# Altium footprint library DF20160711.PcbLib: 86 footprints (part 1 of 6)
Each footprint in its own frame and in the unit in brackets; x right, y up, seen from the top. Pads: shape width x height; smd on the part's side, far side on the other; paste and mask are expansions set on the pad; w line width, h text height; cw(c..) or ccw(c..) is an arc to the next point about the centre after c.
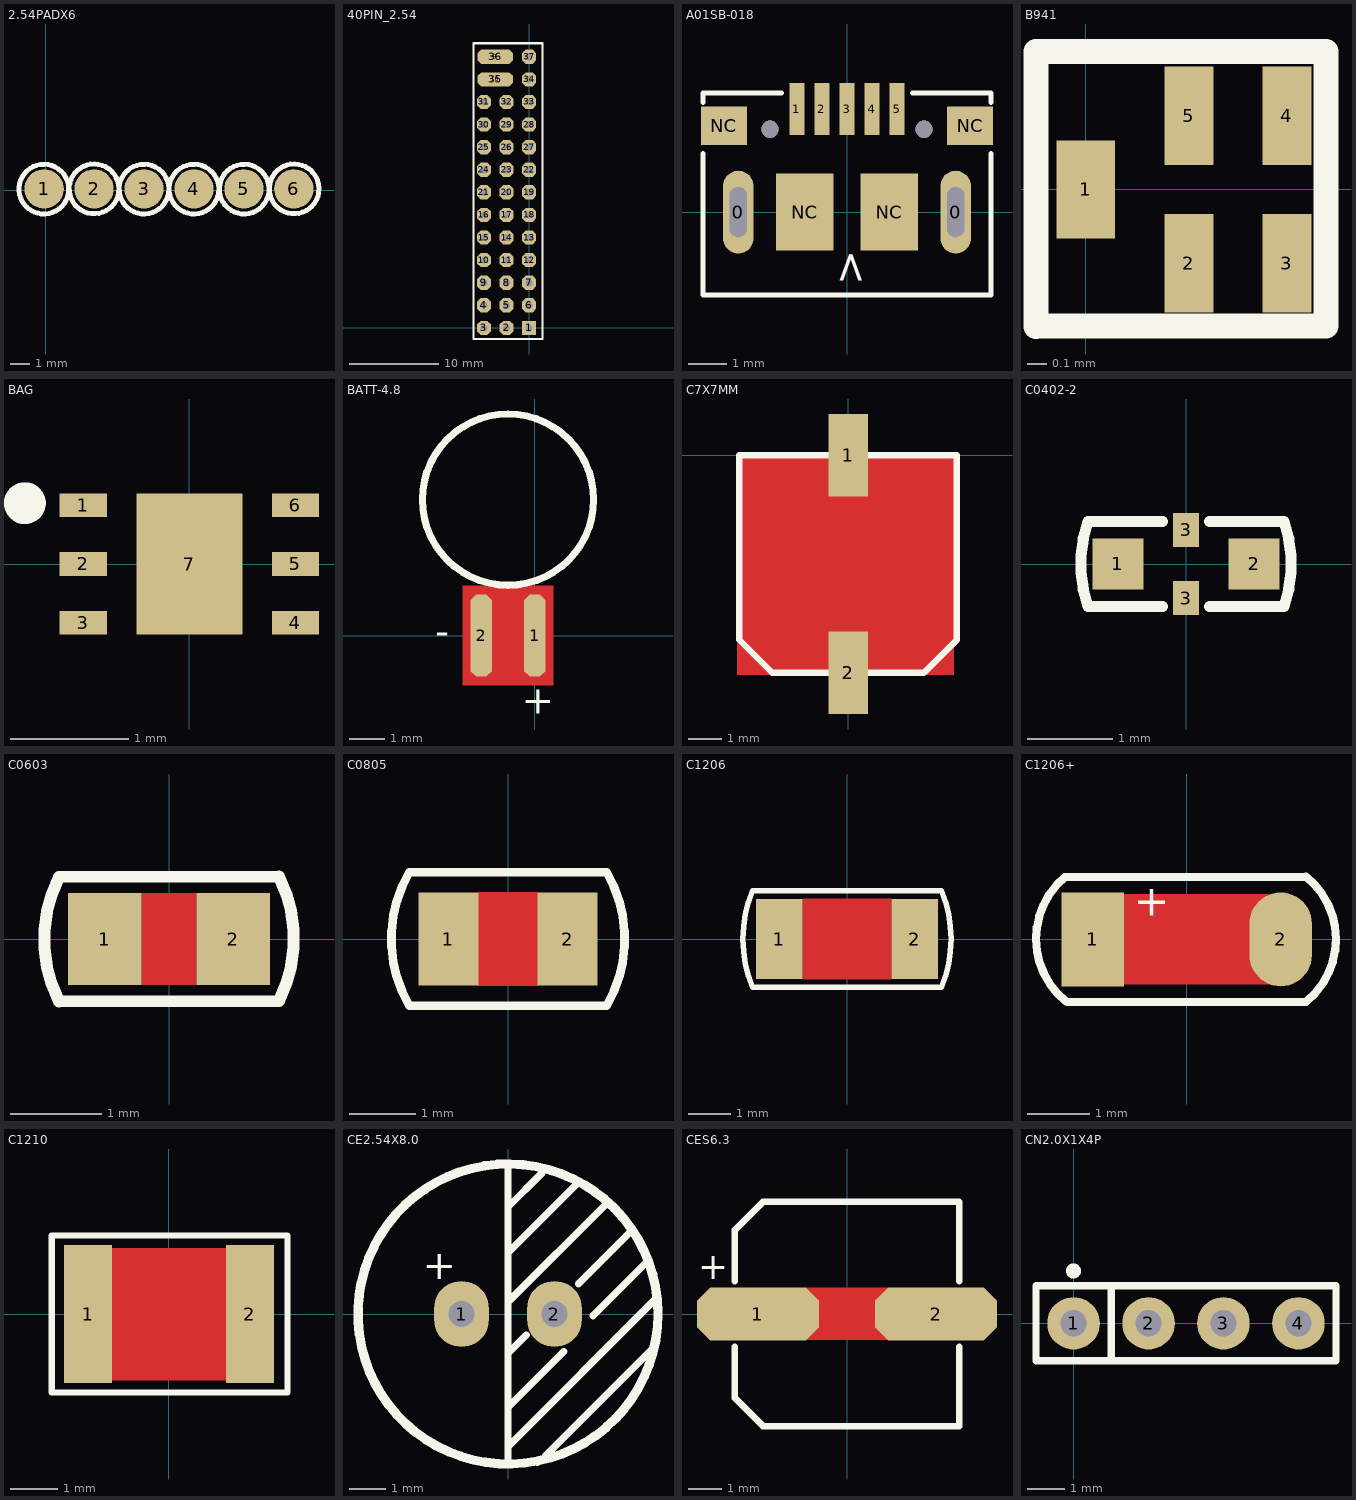
[diagram p0: the footprints below, top view; thin cyan lines are the x and y axes]

## 2.54PADX6 [mm]
pads (6):
  round 2 smd: 1(-0.089,0.064) 2(2.451,0.064) 3(4.991,0.064) 4(7.531,0.064) 5(10.071,0.064) 6(12.611,0.064)
Top Overlay:
  lines w0.254: 1.162,0.091 ccw(c-0.102,0.051) 1.163,0.051 ; 3.715,0.104 ccw(c2.451,0.064) 3.716,0.063 ; 6.255,0.091 ccw(c4.991,0.051) 6.256,0.051 ; 8.795,0.091 ccw(c7.531,0.051) 8.796,0.051 ; 11.348,0.091 ccw(c10.084,0.051) 11.348,0.051 ; 13.888,0.104 ccw(c12.624,0.064) 13.888,0.063

## 40PIN_2.54 [mm]
pads (39):
  rect 1.6x1.6 hole 0.8: 1(0,0)
  oct 1.6x1.6 hole 0.8: 2(-2.54,0) 3(-5.08,0) 4(-5.08,2.54) 5(-2.54,2.54) 6(0,2.54) 7(0,5.08) 8(-2.54,5.08) 9(-5.08,5.08) 10(-5.08,7.62) 11(-2.54,7.62) 12(0,7.62) 13(0,10.16) 14(-2.54,10.16) 15(-5.08,10.16) 16(-5.08,12.7) 17(-2.54,12.7) 18(0,12.7) 19(0,15.24) 20(-2.54,15.24) 21(-5.08,15.24) 22(0,17.78) 23(-2.54,17.78) 24(-5.08,17.78) 25(-5.08,20.32) 26(-2.54,20.32) 27(0,20.32) 28(0,22.86) 29(-2.54,22.86) 30(-5.08,22.86) 31(-5.08,25.4) 32(-2.54,25.4) 33(0,25.4) 34(0,27.94) 37(0,30.48)
  oct 2x1 on Keep-Out: 9(-3.81,30.48) 10(-3.81,27.94)
  oct 4x1.6 all layers, no hole: 35(-3.81,27.94) 36(-3.81,30.48)
Top Overlay:
  lines w0.254: -6.25,-1.25 -6.25,32 1.5,32 1.5,-1.25 -6.25,-1.25

## A01SB-018 [mm]
pads (11):
  oval 0.8x2.15 hole 0.45 slot 1.3 at 90 deg: 0(-2.825,0) 0(2.825,0)
  rect 0.4x1.35 smd paste+0: 1(-1.3,2.675) 2(-0.65,2.675) 3(0,2.675) 4(0.65,2.675) 5(1.3,2.675)
  rect 1.2x1 smd: NC(-3.2,2.25) NC(3.2,2.25)
  rect 1.5x2 smd: NC(-1.1,0) NC(1.1,0)
via 2,2.15 diameter 0.45 hole 0.45
via -2,2.15 diameter 0.45 hole 0.45
Top Overlay:
  lines w0.13: -3.75,1.524 -3.75,-2.15 3.75,-2.15 3.75,1.524 ; -3.75,2.854 -3.75,3.1 -1.703,3.1 ; 1.703,3.1 3.75,3.1 3.75,2.854
  text ">" at 0.45,-1.905 h0.8

## B941 [mm]
height 0.8
pads (5):
  rect 0.3x0.5 smd: 1(0,0)
  rect 0.25x0.5 smd: 2(0.525,-0.376) 3(1.025,-0.376) 4(1.025,0.376) 5(0.525,0.376)
Top Overlay:
  lines w0.127: -0.254,-0.699 -0.254,0.704 1.224,0.704 1.224,-0.696 -0.246,-0.696

## BAG [mm]
pads (7):
  rect 0.4x0.2 smd: 1(-0.9,0.5) 2(-0.9,0) 3(-0.9,-0.5) 4(0.9,-0.5) 5(0.9,0) 6(0.9,0.5)
  rect 0.9x1.2 smd: 7(0,0)
Top Overlay:
  circle w0.254: c-1.396,0.516 r0.05

## BATT-4.8 [mm]
height 0.8
pads (2):
  oct 0.6x2.3 smd: 1(0,0) 2(-1.5,0)
Top Layer:
  pour cut-out: -2.02,-1.397 0.52,-1.397 0.52,1.397 -2.02,1.397
Top Overlay:
  circle w0.2: c-0.75,3.81 r2.4
  text "-" at -2.782,-0.254 h0.8
  text "+" at -0.369,-2.196 h0.8

## C7X7MM [mm]
pads (2):
  rect 1.2x2.5 smd: 1(0,0) 2(0,-6.6)
Top Layer:
  pour cut-out: -3.273,-0.043 -3.365,-0.136 -3.365,-6.657 3.17,-6.657 3.185,-6.673 3.2,-6.657 3.2,0.034
Top Overlay:
  lines w0.2: -3.3,-5.6 -2.3,-6.6 2.3,-6.6 3.3,-5.6 3.3,0 0,0 -3.3,0 -3.3,-5.6

## C0402-2 [mm]
pads (4):
  rect 0.6x0.6 smd: 1(-0.8,0) 2(0.8,0)
  rect 0.3x0.4 smd: 3(0,-0.4) 3(0,0.4)
Top Overlay:
  lines w0.13: -1.154,-0.5 -0.275,-0.5 ; -1.154,-0.493 cw(c0.263,0) -1.154,0.493 ; -1.154,0.5 -0.275,0.5 ; 0.275,-0.5 1.154,-0.5 ; 0.275,0.5 1.154,0.5 ; 1.154,-0.493 ccw(c-0.263,0) 1.154,0.493

## C0603 [mm]
pads (2):
  rect 0.8x1 smd: 1(-0.7,0) 2(0.7,0)
Top Layer:
  pour cut-out: -0.3,0.5 -0.3,-0.5 0.3,-0.5 0.3,0.5
Top Overlay:
  lines w0.13: -1.2,-0.682 cw(c0.138,-0.004) -1.2,0.675 ; -1.2,-0.68 1.2,-0.68 ; -1.2,0.68 1.2,0.68 ; 1.2,-0.675 ccw(c-0.138,0.004) 1.2,0.682

## C0805 [mm]
pads (2):
  rect 0.9x1.4 smd: 1(-0.893,0) 2(0.893,0)
Top Layer:
  pour cut-out: 0.45,0.7 0.45,-0.7 -0.45,-0.7 -0.45,0.7
Top Overlay:
  lines w0.13: -1.482,-1 cw(c0.25,0) -1.482,1 1.482,1 cw(c-0.25,0) 1.482,-1 -1.482,-1

## C1206 [mm]
pads (2):
  rect 1.1x1.9 smd: 1(-1.6,0) 2(1.6,0)
Top Layer:
  pour cut-out: -1.05,0.95 1.05,0.95 1.05,-0.95 -1.05,-0.95
Top Overlay:
  lines w0.13: -2.231,-1.142 cw(c0.543,0) -2.231,1.142 2.231,1.142 cw(c-0.543,0) 2.231,-1.142 -2.231,-1.142

## C1206+ [mm]
pads (2):
  rect 1x1.5 smd: 1(-1.5,0)
  oval 1x1.5 smd: 2(1.5,0)
Top Layer:
  pour cut-out: -1.93,0.723 -1.93,-0.719 1.633,-0.719 1.633,0.723
Top Overlay:
  lines w0.13: -1.945,0.998 ccw(c-1.127,0.01) -1.93,-0.991 ; -1.905,-1 1.905,-1 ; -1.905,1 1.88,1 ; 1.905,1.003 cw(c1.102,0.003) 1.92,-0.985
  text "+" at -0.85,0.375 h0.5

## C1210 [mm]
pads (2):
  rect 1x2.9 smd: 1(-1.7,0) 2(1.7,0)
Top Layer:
  pour cut-out: -2.115,1.384 -2.113,1.383 -2.113,-1.392 2.073,-1.392 2.078,-1.387 2.078,1.392
Top Overlay:
  lines w0.13: -2.462,-1.651 -2.462,1.651 2.491,1.651 2.491,-1.651 -2.462,-1.651

## CE2.54X8.0 [mm]
height 1.3
pads (2):
  oval 1.5x1.8 hole 0.7: 1(-1.27,0) 2(1.27,0)
Top Overlay:
  lines w0.2: 0,-4.05 0,4 ; 0,-3.625 4.025,0.4 ; 0,-2.55 1.525,-1.025 ; 0,-1.075 0.5,-0.575 ; 0,1.675 1.85,3.525 ; 0,2.925 0.925,3.85 ; 0.05,0.375 2.65,2.975 ; 1.025,-3.875 3.95,-0.95 ; 1.925,0.825 3.3,2.2 ; 2.325,-0.05 3.8,1.425
  lines w0.254: 4.1,0 cw(c0,0) 4.1,0.039
  text "+" at -2.325,0.95 h0.8

## CES6.3 [mm]
height 1.3
pads (2):
  oct 3.7x1.6 smd: 1(-2.7,0) 2(2.7,0)
Top Layer:
  pour cut-out: -1.25,0.8 1.25,0.8 1.25,-0.8 1.225,-0.775 -1.25,-0.775
Top Overlay:
  lines w0.2: -3.4,-1 -3.4,-2.55 -2.55,-3.4 3.4,-3.4 3.4,-1 ; -3.4,1 -3.4,2.55 -2.55,3.4 3.4,3.4 3.4,1
  text "+" at -4.51,1.048 h0.8

## CN2.0X1X4P [mm]
pads (4):
  round 1.4 hole 0.7: 1(0,0) 2(2,0) 3(4,0) 4(6,0)
Top Overlay:
  circle w0.2: c0,1.397 r0.1
  lines w0.2: 1,-1 1,1 ; -1,-1 7,-1 7,1 -1,1 -1,-1